# Altium footprint library QFP32P80_900X900X120L60X37N.PcbLib: 1 footprints
Each footprint in its own frame and in the unit in brackets; x right, y up, seen from the top. Pads: shape width x height; smd on the part's side, far side on the other; paste and mask are expansions set on the pad; w line width, h text height; cw(c..) or ccw(c..) is an arc to the next point about the centre after c.
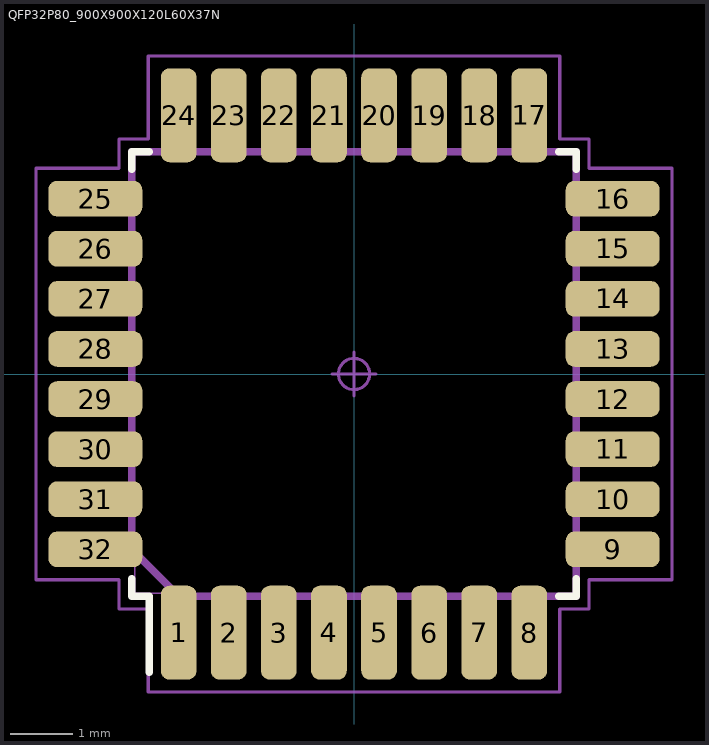
[diagram p0: the footprint, top view; thin cyan lines are the x and y axes]

## QFP32P80_900X900X120L60X37N [mm] "Quad Flat Pack (QFP), 0.80 mm pitch; square, 8 pin X 8 pin, 7.00 mm L X 7.00 mm W X 1.20 mm H body"
height 1.2
pads (32):
  rrect49% 0.57x1.5 smd: 1(-2.8,-4.13) 2(-2,-4.13) 3(-1.2,-4.13) 4(-0.4,-4.13) 5(0.4,-4.13) 6(1.2,-4.13) 7(2,-4.13) 8(2.8,-4.13) 17(2.8,4.13) 18(2,4.13) 19(1.2,4.13) 20(0.4,4.13) 21(-0.4,4.13) 22(-1.2,4.13) 23(-2,4.13) 24(-2.8,4.13)
  rrect49% 1.5x0.57 smd: 9(4.13,-2.8) 10(4.13,-2) 11(4.13,-1.2) 12(4.13,-0.4) 13(4.13,0.4) 14(4.13,1.2) 15(4.13,2) 16(4.13,2.8) 25(-4.13,2.8) 26(-4.13,2) 27(-4.13,1.2) 28(-4.13,0.4) 29(-4.13,-0.4) 30(-4.13,-1.2) 31(-4.13,-2) 32(-4.13,-2.8)
Top Overlay:
  lines w0.12: -3.55,-3.27 -3.55,-3.55 -3.27,-3.55 -3.27,-4.76 ; -3.55,3.27 -3.55,3.55 -3.27,3.55 ; 3.27,-3.55 3.55,-3.55 3.55,-3.27 ; 3.27,3.55 3.55,3.55 3.55,3.27
Mechanical 3:
  lines w0.12: -3.55,-2.8 -3.55,3.55 3.55,3.55 3.55,-3.55 -2.8,-3.55 -3.55,-2.8
Mechanical 5:
  lines w0.025: -4.5,-2.987 -4.5,-2.612 -3.9,-2.612 -3.9,-2.987 -4.5,-2.987 ; -4.5,-2.187 -4.5,-1.813 -3.9,-1.813 -3.9,-2.187 -4.5,-2.187 ; -4.5,-1.388 -4.5,-1.012 -3.9,-1.012 -3.9,-1.388 -4.5,-1.388 ; -4.5,-0.587 -4.5,-0.212 -3.9,-0.212 -3.9,-0.587 -4.5,-0.587 ; -4.5,0.212 -4.5,0.587 -3.9,0.587 -3.9,0.212 -4.5,0.212 ; -4.5,1.012 -4.5,1.388 -3.9,1.388 -3.9,1.012 -4.5,1.012 ; -4.5,1.813 -4.5,2.187 -3.9,2.187 -3.9,1.813 -4.5,1.813 ; -4.5,2.612 -4.5,2.987 -3.9,2.987 -3.9,2.612 -4.5,2.612 ; -3.5,-3.5 3.5,-3.5 3.5,3.5 -3.5,3.5 -3.5,-3.5 ; -2.987,-4.5 -2.987,-3.9 -2.612,-3.9 -2.612,-4.5 -2.987,-4.5 ; -2.987,3.9 -2.987,4.5 -2.612,4.5 -2.612,3.9 -2.987,3.9 ; -2.187,-4.5 -2.187,-3.9 -1.813,-3.9 -1.813,-4.5 -2.187,-4.5 ; -2.187,3.9 -2.187,4.5 -1.813,4.5 -1.813,3.9 -2.187,3.9 ; -1.388,-4.5 -1.388,-3.9 -1.012,-3.9 -1.012,-4.5 -1.388,-4.5 ; -1.388,3.9 -1.388,4.5 -1.012,4.5 -1.012,3.9 -1.388,3.9 ; -0.587,-4.5 -0.587,-3.9 -0.212,-3.9 -0.212,-4.5 -0.587,-4.5 ; -0.587,3.9 -0.587,4.5 -0.212,4.5 -0.212,3.9 -0.587,3.9 ; 0.212,-4.5 0.212,-3.9 0.587,-3.9 0.587,-4.5 0.212,-4.5 ; 0.212,3.9 0.212,4.5 0.587,4.5 0.587,3.9 0.212,3.9 ; 1.012,-4.5 1.012,-3.9 1.388,-3.9 1.388,-4.5 1.012,-4.5 ; 1.012,3.9 1.012,4.5 1.388,4.5 1.388,3.9 1.012,3.9 ; 1.813,-4.5 1.813,-3.9 2.187,-3.9 2.187,-4.5 1.813,-4.5 ; 1.813,3.9 1.813,4.5 2.187,4.5 2.187,3.9 1.813,3.9 ; 2.612,-4.5 2.612,-3.9 2.987,-3.9 2.987,-4.5 2.612,-4.5 ; 2.612,3.9 2.612,4.5 2.987,4.5 2.987,3.9 2.612,3.9 ; 3.9,-2.987 4.5,-2.987 4.5,-2.612 3.9,-2.612 3.9,-2.987 ; 3.9,-2.187 4.5,-2.187 4.5,-1.813 3.9,-1.813 3.9,-2.187 ; 3.9,-1.388 4.5,-1.388 4.5,-1.012 3.9,-1.012 3.9,-1.388 ; 3.9,-0.587 4.5,-0.587 4.5,-0.212 3.9,-0.212 3.9,-0.587 ; 3.9,0.212 4.5,0.212 4.5,0.587 3.9,0.587 3.9,0.212 ; 3.9,1.012 4.5,1.012 4.5,1.388 3.9,1.388 3.9,1.012 ; 3.9,1.813 4.5,1.813 4.5,2.187 3.9,2.187 3.9,1.813 ; 3.9,2.612 4.5,2.612 4.5,2.987 3.9,2.987 3.9,2.612
Mechanical 7:
  circle w0.05: c0,0 r0.25
  lines w0.05: -0.35,0 0.35,0 ; 0,-0.35 0,0.35 ; -5.08,-3.285 -3.75,-3.285 -3.75,-3.75 -3.285,-3.75 -3.285,-5.08 3.285,-5.08 3.285,-3.75 3.75,-3.75 3.75,-3.285 5.08,-3.285 5.08,3.285 3.75,3.285 3.75,3.75 3.285,3.75 3.285,5.08 -3.285,5.08 -3.285,3.75 -3.75,3.75 -3.75,3.285 -5.08,3.285 -5.08,-3.285
Mechanical 9:
  text "'.Designator'" at -5.715,-0.508 h1
3D body "QFP32P80_900X900X120L60X37.STEP": height 1.2, standoff 0, extent -4.5,-4.5 4.5,4.5
3D body: height 1, standoff 0, extent -5.08,-5.08 5.08,5.08